# Altium schematic symbol library Custom Transformers.SchLib: 1 symbol
Pins are listed as number, name and electrical type; pins without a type are passive.

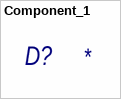
[diagram p0: symbol Component_1]

## Component_1
designator D?
!!! Обязательно Впишите описание символа